# Altium footprint library AT89C51_footprint.PcbLib: 1 footprints
Each footprint in its own frame and in the unit in brackets; x right, y up, seen from the top. Pads: shape width x height; smd on the part's side, far side on the other; paste and mask are expansions set on the pad; w line width, h text height; cw(c..) or ccw(c..) is an arc to the next point about the centre after c.
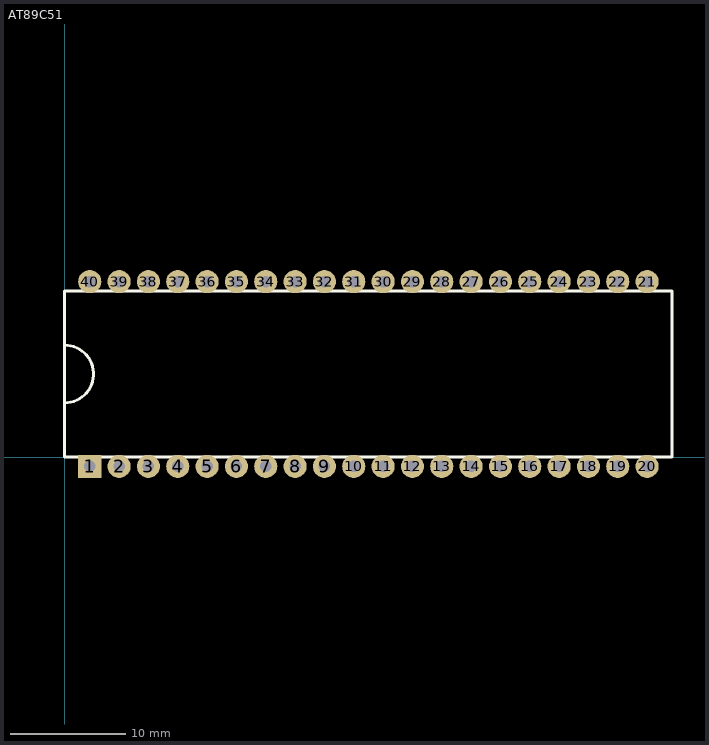
[diagram p0: the footprint, top view; thin cyan lines are the x and y axes]

## AT89C51 [mm]
pads (40):
  rect 2x2 hole 1: 1(2.17,-0.8)
  round 2 hole 1: 2(4.71,-0.8) 3(7.25,-0.8) 4(9.79,-0.8) 5(12.33,-0.8) 6(14.87,-0.8) 7(17.41,-0.8) 8(19.95,-0.8) 9(22.49,-0.8) 10(25.03,-0.8) 11(27.57,-0.8) 12(30.11,-0.8) 13(32.65,-0.8) 14(35.19,-0.8) 15(37.73,-0.8) 16(40.27,-0.8) 17(42.81,-0.8) 18(45.35,-0.8) 19(47.89,-0.8) 20(50.43,-0.8) 21(50.43,15.2) 22(47.89,15.2) 23(45.35,15.2) 24(42.81,15.2) 25(40.27,15.2) 26(37.73,15.2) 27(35.19,15.2) 28(32.65,15.2) 29(30.11,15.2) 30(27.57,15.2) 31(25.03,15.2) 32(22.49,15.2) 33(19.95,15.2) 34(17.41,15.2) 35(14.87,15.2) 36(12.33,15.2) 37(9.79,15.2) 38(7.25,15.2) 39(4.71,15.2) 40(2.17,15.2)
Top Overlay:
  lines w0.254: 0,4.7 ccw(c0,7.2) 0,9.7 ; 0,0 52.6,0 52.6,14.4 0,14.4 0,0